# Altium schematic symbol library Connectors.SchLib: 13 symbols
Pins are listed as number, name and electrical type; pins without a type are passive.

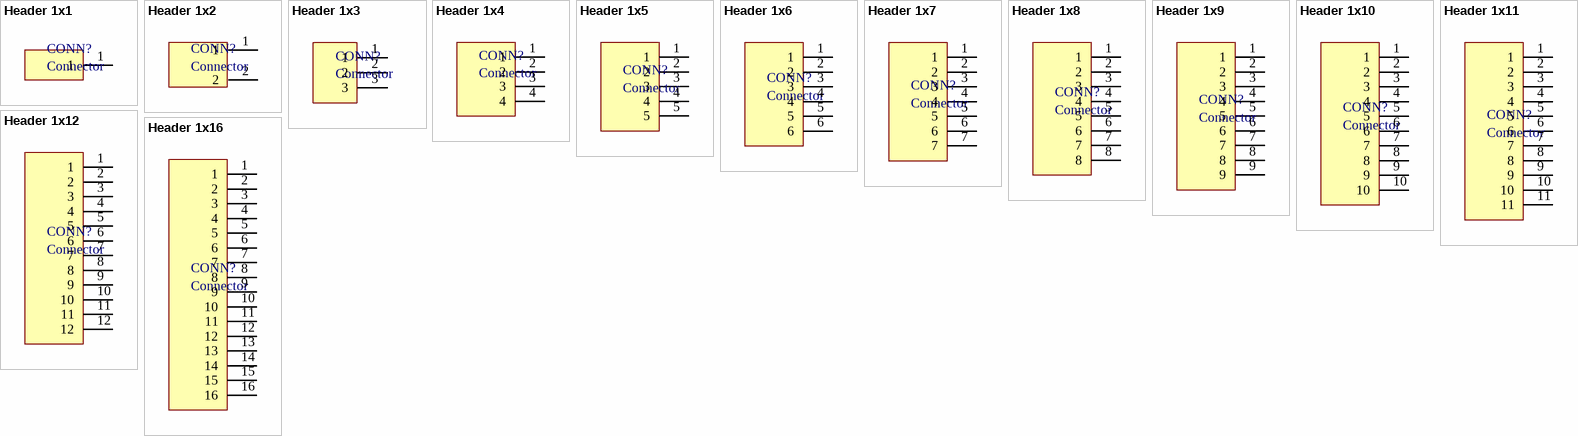
[diagram p0: symbols Header 1x1 to Header 1x16]

## Header 1x1
designator CONN?, comment Connector
footprint 1x1x2.54 Pin Header TH V (1x1x2.54 Pin Header TH Vertical)
pins: 1

## Header 1x2
designator CONN?, comment Connector
footprint 1x2x2.54 Pin Header TH V
pins: 1, 2

## Header 1x3
designator CONN?, comment Connector
footprint 1x3x2.54 Pin Header TH V
pins: 1, 2, 3

## Header 1x4
designator CONN?, comment Connector
footprint 1x4x2.54 Pin Header TH V
pins: 1, 2, 3, 4

## Header 1x5
designator CONN?, comment Connector
footprint 1x5x2.54 Pin Header TH V
pins: 1, 2, 3, 4, 5

## Header 1x6
designator CONN?, comment Connector
footprint 1x6x2.54 Pin Header TH V
pins: 1, 2, 3, 4, 5, 6

## Header 1x7
designator CONN?, comment Connector
footprint 1x7x2.54 Pin Header TH V
pins: 1, 2, 3, 4, 5, 6, 7

## Header 1x8
designator CONN?, comment Connector
footprint 1x8x2.54 Pin Header TH V
pins: 1, 2, 3, 4, 5, 6, 7, 8

## Header 1x9
designator CONN?, comment Connector
footprint 1x9x2.54 Pin Header TH V
pins: 1, 2, 3, 4, 5, 6, 7, 8, 9

## Header 1x10
designator CONN?, comment Connector
footprint 1x10x2.54 Pin Header TH V
pins: 1, 2, 3, 4, 5, 6, 7, 8, 9, 10

## Header 1x11
designator CONN?, comment Connector
footprint 1x11x2.54 Pin Header TH V
pins: 1, 2, 3, 4, 5, 6, 7, 8, 9, 10, 11

## Header 1x12
designator CONN?, comment Connector
footprint 1x12x2.54 Pin Header TH V
pins: 1, 2, 3, 4, 5, 6, 7, 8, 9, 10, 11, 12

## Header 1x16
designator CONN?, comment Connector
footprint 1x16x2.54 Pin Header TH V
pins: 1, 2, 3, 4, 5, 6, 7, 8, 9, 10, 11, 12, 13, 14, 15, 16